# EAGLE library part TYCO-174049 (library connector)
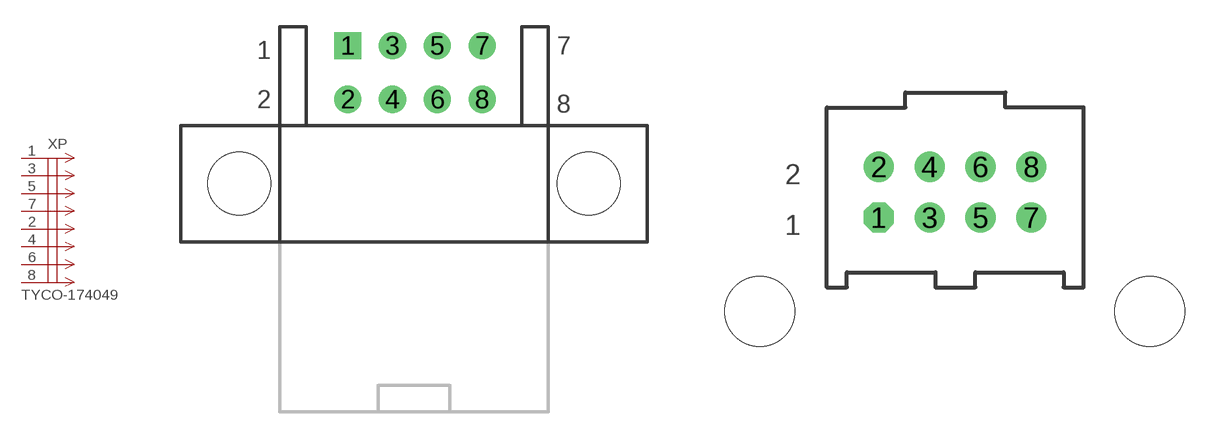
[diagram p2: symbol with the pads of TYCO-174049; footprints TYCO-174049, TYCO-174049(2.54)]

Designator prefix XP

## TYCO-174049  [TYCO-174049]
1  1  pas
2  5  pas
3  2  pas
4  6  pas
5  3  pas
6  7  pas
7  4  pas
8  8  pas

## TYCO-174049(2.54)  [TYCO-174049(2.54)]
1  1  pas
2  2  pas
3  3  pas
4  4  pas
5  5  pas
6  6  pas
7  7  pas
8  8  pas

## Footprint TYCO-174049 (pad centres in mm)
drill 1 square: 1 6.05,7.7
drill 1: 2 6.05,4.7; 3 8.55,7.7; 4 8.55,4.7; 5 11.05,7.7; 6 11.05,4.7; 7 13.55,7.7; 8 13.55,4.7
hole 3.5 at 0,0
hole 3.5 at 19.5,0

## Footprint TYCO-174049(2.54) (pad centres in mm)
drill 1 octagon: 1 5.969,4.699
drill 1: 2 5.969,7.239; 3 8.509,4.699; 4 8.509,7.239; 5 11.049,4.699; 6 11.049,7.239; 7 13.589,4.699; 8 13.589,7.239
hole 3.5 at 0,0
hole 3.5 at 19.5,0